# EAGLE library part ISPHDR (library lattice)
8-pin header for in-circuit programming cable
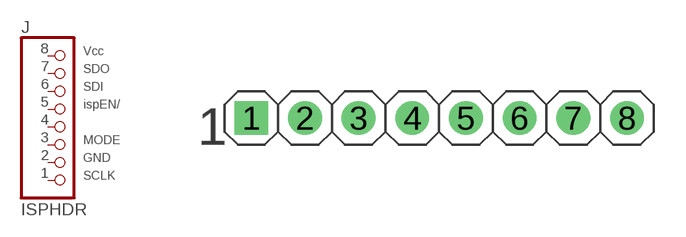
[diagram p1: symbol with the pads of 1X08; footprint 1X08]

Designator prefix J

## ISPHDR  [1X08]
1  SCLK  out
2  GND  pwr
3  MODE  out
4  N/C  nc
5  ISPEN/  out
6  SDI  out
7  SDO  in
8  VCC  pwr

## Footprint 1X08 (pad centres in mm)
8-pin header for in-circuit programming cable
drill 1.016 pad 1.6 square: 1 -8.89,0
drill 1.016 pad 1.6 round: 2 -6.35,0; 3 -3.81,0; 4 -1.27,0; 5 1.27,0; 6 3.81,0; 7 6.35,0; 8 8.89,0